# Altium integrated library Photodiode_BPV11.IntLib: 1 symbol
Pins are listed as number, name and electrical type; pins without a type are passive.

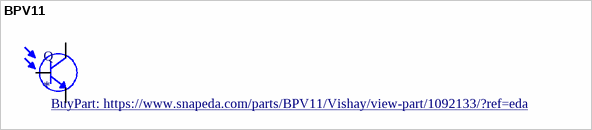
[diagram p0: symbol BPV11]

## BPV11
designator Q
Phototransistors 930nm Top View Radial, 5mm Dia (T 1 3/4); MP: BPV11; MF: Vishay; DigiKey-Purchase-URL: https://snapeda.com/shop?store=DigiKey&id=1092133; Availability: Warning; Arrow_Electronics-Purchase-URL: https://snapeda.com/shop?store=Arrow+Electronics&id=1092133; Package: Radial Vishay; Mouser-Purchase-URL: https://snapeda.com/shop?store=Mouser&id=1092133; Value: *; SnapEDA_Link: https://www.snapeda.com/parts/BPV11/Vishay/view-part/1092133/?ref=snap; Price: None; BuyPart: https://www.snapeda.com/parts/BPV11/Vishay/view-part/1092133/?ref=eda
footprint XDCR_BPV11
pins: B, C, E